# Altium footprint library Hzhiwei.PcbLib: 63 footprints (part 2 of 4)
Each footprint in its own frame and in the unit in brackets; x right, y up, seen from the top. Pads: shape width x height; smd on the part's side, far side on the other; paste and mask are expansions set on the pad; w line width, h text height; cw(c..) or ccw(c..) is an arc to the next point about the centre after c.
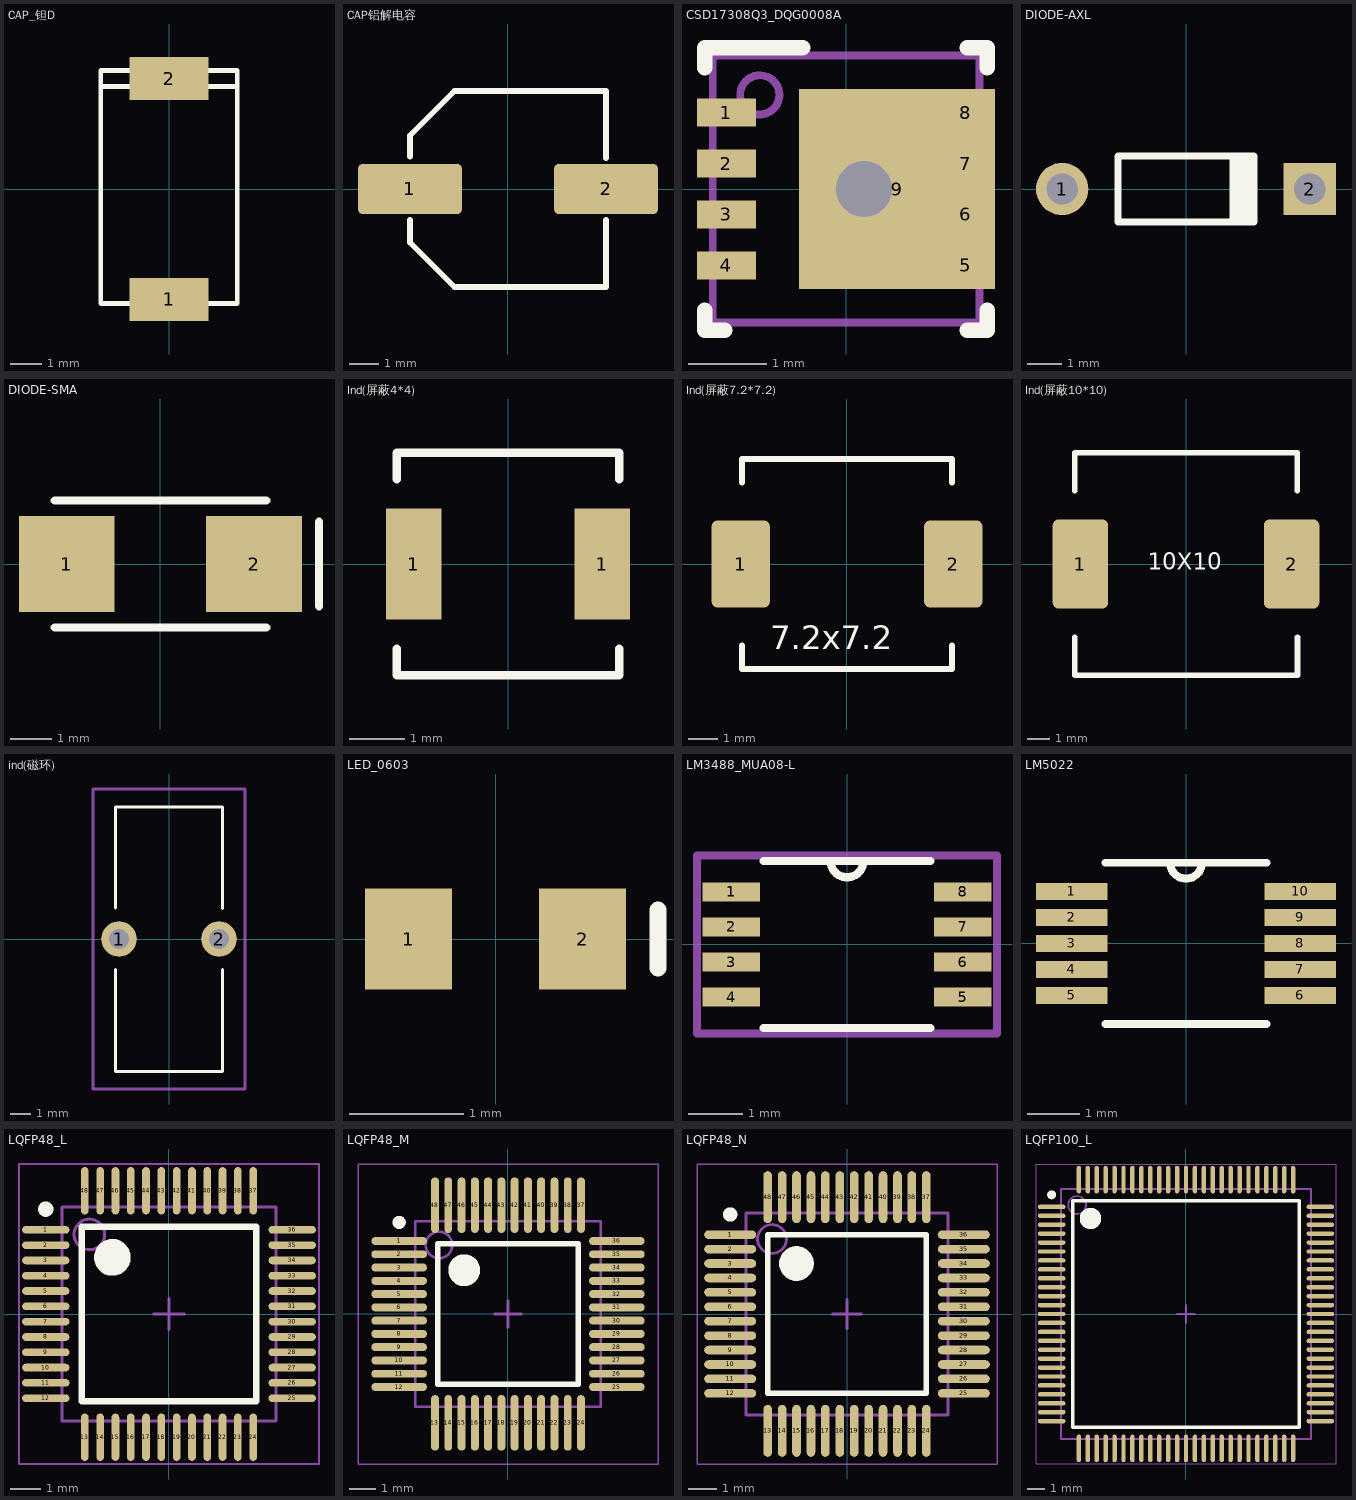
[diagram p1: the footprints below, top view; thin cyan lines are the x and y axes]

## CAP_钽D [mm]
pads (2):
  rect 2.5x1.36 smd: 1(0,-3.492) 2(0,3.492)
Top Overlay:
  lines w0.152: -2.159,3.238 2.159,3.238 ; -2.159,-3.619 -2.159,3.746 2.159,3.746 2.159,-3.619 -2.159,-3.619
3D body: height 4.1, standoff -0.01, extent -2.159,-3.746 2.159,2.73
3D body: height 4.1, standoff -0.01, extent -2.159,2.73 2.159,3.746
3D body: height 2, standoff 0, extent -1.27,2.73 1.27,4.255
3D body: height 2, standoff 0, extent -1.27,-4.255 1.397,-2.73

## CAP铝解电容 [mm]
pads (2):
  rrect20% 3.5x1.7 smd: 1(-3.3,0) 2(3.3,0)
Top Overlay:
  lines w0.2: -3.3,-1.05 -3.3,-1.8 -1.8,-3.3 3.3,-3.3 3.3,-1.05 ; -3.3,1.1 -3.3,1.8 -1.8,3.3 3.3,3.3 3.3,1.05
3D body: height 7, standoff 0, extent -3.222,-3.242 3.252,3.246
3D body: height 1, standoff 0, extent -3.3,-3.3 3.304,3.304

## CSD17308Q3_DQG0008A [mm]
pads (9):
  rect 0.75x0.356 smd paste-0.05 mask-0.051: 1(-1.525,0.975) 2(-1.525,0.325) 3(-1.525,-0.325) 4(-1.525,-0.975)
  rect 0.75x0.44 smd paste-0.05 mask-0.051: 5(1.525,-0.975) 6(1.525,-0.325) 7(1.525,0.325) 8(1.525,0.975)
  rect 2.5x2.55 smd paste-1.262 mask-1.257: 9(0.65,0)
via 0.229,0 diameter 1.27 hole 0.711
Top Overlay:
  lines w0.2: -1.8,-1.55 -1.8,-1.8 -1.55,-1.8 ; -1.8,1.55 -1.8,1.8 -0.55,1.8 ; 1.55,-1.8 1.8,-1.8 1.8,-1.55 ; 1.55,1.8 1.8,1.8 1.8,1.55
Top Paste:
  region: 0.125,1.184 0.126,1.174 0.126,0.151 0.125,0.141 0.122,0.131 0.117,0.123 0.111,0.115 0.103,0.109 0.095,0.104 0.085,0.101 0.075,0.1 -0.499,0.1 -0.509,0.101 -0.519,0.104 -0.527,0.109 -0.535,0.115 -0.541,0.123 -0.546,0.131 -0.549,0.141 -0.55,0.151 -0.55,1.174 -0.549,1.184 -0.546,1.194 -0.541,1.202 -0.535,1.21 -0.527,1.216 -0.519,1.221 -0.509,1.224 -0.499,1.225 0.075,1.225 0.085,1.224 0.095,1.221 0.103,1.216 0.111,1.21 0.117,1.202 0.122,1.194
  region: 0.125,-0.141 0.126,-0.151 0.126,-1.174 0.125,-1.184 0.122,-1.194 0.117,-1.202 0.111,-1.21 0.103,-1.216 0.095,-1.221 0.085,-1.224 0.075,-1.225 -0.499,-1.225 -0.509,-1.224 -0.519,-1.221 -0.527,-1.216 -0.535,-1.21 -0.541,-1.202 -0.546,-1.194 -0.549,-1.184 -0.55,-1.174 -0.55,-0.151 -0.549,-0.141 -0.546,-0.131 -0.541,-0.123 -0.535,-0.115 -0.527,-0.109 -0.519,-0.104 -0.509,-0.101 -0.499,-0.1 0.075,-0.1 0.085,-0.101 0.095,-0.104 0.103,-0.109 0.111,-0.115 0.117,-0.123 0.122,-0.131
  region: 0.327,-1.184 0.326,-1.174 0.326,-0.151 0.327,-0.141 0.33,-0.131 0.335,-0.123 0.341,-0.115 0.349,-0.109 0.357,-0.104 0.367,-0.101 0.377,-0.1 0.951,-0.1 0.961,-0.101 0.971,-0.104 0.979,-0.109 0.987,-0.115 0.993,-0.123 0.998,-0.131 1.001,-0.141 1.002,-0.151 1.002,-1.174 1.001,-1.184 0.998,-1.194 0.993,-1.202 0.987,-1.21 0.979,-1.216 0.971,-1.221 0.961,-1.224 0.951,-1.225 0.377,-1.225 0.367,-1.224 0.357,-1.221 0.349,-1.216 0.341,-1.21 0.335,-1.202 0.33,-1.194
  region: 0.327,0.141 0.326,0.151 0.326,1.174 0.327,1.184 0.33,1.194 0.335,1.202 0.341,1.21 0.349,1.216 0.357,1.221 0.367,1.224 0.377,1.225 0.951,1.225 0.961,1.224 0.971,1.221 0.979,1.216 0.987,1.21 0.993,1.202 0.998,1.194 1.001,1.184 1.002,1.174 1.002,0.151 1.001,0.141 0.998,0.131 0.993,0.123 0.987,0.115 0.979,0.109 0.971,0.104 0.961,0.101 0.951,0.1 0.377,0.1 0.367,0.101 0.357,0.104 0.349,0.109 0.341,0.115 0.335,0.123 0.33,0.131
Top Solder:
  drawing of 5 lines, arcs and shapes, not listed
Mechanical 13:
  circle w0.1: c-1.1,1.2 r0.25
  lines w0.1: -1.7,-1.7 -1.7,1.7 1.7,1.7 1.7,-1.7 -1.7,-1.7
3D body "DQG0008A.stp": height 1.1, standoff 0, extent -1.65,-1.65 1.65,1.65

## DIODE-AXL [mm] "直插二极管"
height 1.9
pads (2):
  round 1.5 hole 0.9: 1(-3.55,0)
  rect 1.5x1.5 hole 0.9: 2(3.55,0)
Top Overlay:
  rectangle: 1.25,-0.95 2.05,0.95
  lines w0.2: 1.95,-0.95 -1.95,-0.95 -1.95,0.95 1.95,0.95

## DIODE-SMA [mm] "贴片二极管"
height 2.54
pads (2):
  rect 2.3x2.3 smd: 1(-2.25,0) 2(2.25,0)
Top Overlay:
  lines w0.2: -2.54,-1.524 2.54,-1.524 ; -2.54,1.524 2.54,1.524 ; 3.81,-1.016 3.81,1.016
3D body: height 3, standoff 0, extent -2.921,-1.397 2.921,1.397

## Ind(屏蔽4*4) [mm]
pads (2):
  rect 1x2 smd: 1(-1.7,0) 1(1.7,0)
Top Overlay:
  lines w0.152: -2,-1.524 -2,-2 2,-2 2,-1.524 ; -2,1.524 -2,2 2,2 2,1.524
3D body: height 2, standoff 0, extent -1.981,-2.007 2.007,1.981

## Ind(屏蔽7.2*7.2) [mm]
pads (2):
  rrect20% 2x3 smd: 1(-3.65,0) 2(3.65,0)
Top Overlay:
  lines w0.2: -3.6,-2.794 -3.6,-3.6 3.6,-3.6 3.6,-2.794 ; -3.6,2.794 -3.6,3.6 1.9,3.6 3.6,3.6 3.6,2.794
  text "7.2x7.2" at -2.642,-2.921 h0.81
3D body: height 4, standoff 0.5, extent -3.575,-3.6 3.588,3.588

## Ind(屏蔽10*10) [mm]
pads (2):
  rrect20% 2.5x4 smd: 1(-4.75,0) 2(4.75,0)
Top Overlay:
  lines w0.254: -5,-3.302 -5,-5 5.016,-5 5.016,-3.302 ; -5,3.302 -5,5 5,5 5,3.302
  text "10X10" at -1.719,-0.269 h0.76
3D body: height 5, standoff 0.5, extent -4.978,-4.978 5.004,4.953

## ind(磁环) [mil]
pads (2):
  round 70 hole 40: 1(-98.43,0) 2(98.43,0)
Top Overlay:
  lines w6: -105,-60 -105,-261 105,-261 105,-60 ; -105,61 -105,260 105,260 105,60
Mechanical 15:
  lines w6: -149.61,-295.28 -149.61,295.28 149.61,295.28 149.61,-295.28 -149.61,-295.28
3D body "外径13厚度5.STEP": height 519.68, standoff 7.87, extent -98.42,-256.9 98.43,254.91

## LED_0603 [mil]
pads (2):
  rect 30x35 smd: 1(-30,0) 2(30,0)
Top Overlay:
  lines w6: 56,-10 56,10
3D body "LED_0603.STEP": height 15.75, standoff 0, extent -30.5,-16 32.5,15.5

## LM3488_MUA08-L [mil]
pads (8):
  rect 42x14 smd mask+4: 1(-84.5,38.39) 2(-84.5,12.8) 3(-84.5,-12.8) 4(-84.5,-38.39) 5(84.5,-38.39) 6(84.5,-12.8) 7(84.5,12.8) 8(84.5,38.39)
Top Overlay:
  lines w6: -61,-61 61,-61 ; -61,61 61,61 ; -12,61 ccw(c0,61) 12,61
Mechanical 13:
  lines w0: -12,61 ccw(c0,61) 12,61
Mechanical 15:
  lines w6: -109.5,-65 -109.5,65 109.5,65 109.5,-65 -109.5,-65
3D body "LM3488.stp": height 38, standoff 0, extent -95.5,-59 97.5,59

## LM5022 [mil] "TI升压IC"
pads (10):
  rect 54x13 smd mask+4: 1(-86.5,39.37) 2(-86.5,19.68) 3(-86.5,0) 4(-86.5,-19.68) 5(-86.5,-39.37) 6(86.5,-39.37) 7(86.5,-19.68) 8(86.5,0) 9(86.5,19.68) 10(86.5,39.37)
Top Overlay:
  lines w6: -61,-61 61,-61 ; -61,61 61,61 ; -12,61 ccw(c0,61) 12,61
Mechanical 13:
  lines w0: -12,61 ccw(c0,61) 12,61
3D body "MUB10A-M.stp": height 43.01, standoff 0, extent -99.5,-61 99.5,61

## LQFP48_L [mm] "Thin QFP, 48-Leads, Body 7x7mm, Pitch 0.5mm, IPC High Density"
height 1.6
pads (48):
  oval 1.55x0.25 smd: 1(-4.025,2.75) 2(-4.025,2.25) 3(-4.025,1.75) 4(-4.025,1.25) 5(-4.025,0.75) 6(-4.025,0.25) 7(-4.025,-0.25) 8(-4.025,-0.75) 9(-4.025,-1.25) 10(-4.025,-1.75) 11(-4.025,-2.25) 12(-4.025,-2.75) 25(4.025,-2.75) 26(4.025,-2.25) 27(4.025,-1.75) 28(4.025,-1.25) 29(4.025,-0.75) 30(4.025,-0.25) 31(4.025,0.25) 32(4.025,0.75) 33(4.025,1.25) 34(4.025,1.75) 35(4.025,2.25) 36(4.025,2.75)
  oval 0.25x1.55 smd: 13(-2.75,-4.025) 14(-2.25,-4.025) 15(-1.75,-4.025) 16(-1.25,-4.025) 17(-0.75,-4.025) 18(-0.25,-4.025) 19(0.25,-4.025) 20(0.75,-4.025) 21(1.25,-4.025) 22(1.75,-4.025) 23(2.25,-4.025) 24(2.75,-4.025) 37(2.75,4.025) 38(2.25,4.025) 39(1.75,4.025) 40(1.25,4.025) 41(0.75,4.025) 42(0.25,4.025) 43(-0.25,4.025) 44(-0.75,4.025) 45(-1.25,4.025) 46(-1.75,4.025) 47(-2.25,4.025) 48(-2.75,4.025)
Top Overlay:
  circle w0.6: c-1.85,1.85 r0.3
  circle w0.25: c-4.025,3.425 r0.125
  lines w0.2: -2.85,-2.85 2.85,-2.85 2.85,2.85 -2.85,2.85 -2.85,-2.85
Mechanical 13:
  circle w0.1: c-2.6,2.6 r0.5
  lines w0.1: -3.5,-3.5 3.5,-3.5 3.5,3.5 -3.5,3.5 -3.5,-3.5
Mechanical 15:
  lines w0.05: -4.9,-4.9 4.9,-4.9 4.9,4.9 -4.9,4.9 -4.9,-4.9
  lines w0.1: -0.5,0 0.5,0 ; 0,-0.5 0,0.5
3D body: height 1.6, standoff 0, extent -3.5,-3.5 3.5,3.5

## LQFP48_M [mm] "Thin QFP, 48-Leads, Body 7x7mm, Pitch 0.5mm, IPC Low Density"
height 1.6
pads (48):
  oval 2.1x0.3 smd: 1(-4.1,2.75) 2(-4.1,2.25) 3(-4.1,1.75) 4(-4.1,1.25) 5(-4.1,0.75) 6(-4.1,0.25) 7(-4.1,-0.25) 8(-4.1,-0.75) 9(-4.1,-1.25) 10(-4.1,-1.75) 11(-4.1,-2.25) 12(-4.1,-2.75) 25(4.1,-2.75) 26(4.1,-2.25) 27(4.1,-1.75) 28(4.1,-1.25) 29(4.1,-0.75) 30(4.1,-0.25) 31(4.1,0.25) 32(4.1,0.75) 33(4.1,1.25) 34(4.1,1.75) 35(4.1,2.25) 36(4.1,2.75)
  oval 0.3x2.1 smd: 13(-2.75,-4.1) 14(-2.25,-4.1) 15(-1.75,-4.1) 16(-1.25,-4.1) 17(-0.75,-4.1) 18(-0.25,-4.1) 19(0.25,-4.1) 20(0.75,-4.1) 21(1.25,-4.1) 22(1.75,-4.1) 23(2.25,-4.1) 24(2.75,-4.1) 37(2.75,4.1) 38(2.25,4.1) 39(1.75,4.1) 40(1.25,4.1) 41(0.75,4.1) 42(0.25,4.1) 43(-0.25,4.1) 44(-0.75,4.1) 45(-1.25,4.1) 46(-1.75,4.1) 47(-2.25,4.1) 48(-2.75,4.1)
Top Overlay:
  circle w0.25: c-4.1,3.45 r0.125
  circle w0.6: c-1.65,1.65 r0.3
  lines w0.2: -2.65,-2.65 -2.65,2.65 2.65,2.65 2.65,-2.65 -2.65,-2.65
Mechanical 13:
  circle w0.1: c-2.6,2.6 r0.5
  lines w0.1: -3.5,-3.5 -3.5,3.5 3.5,3.5 3.5,-3.5 -3.5,-3.5
Mechanical 15:
  lines w0.05: -5.65,-5.65 -5.65,5.65 5.65,5.65 5.65,-5.65 -5.65,-5.65
  lines w0.1: -0.5,0 0.5,0 ; 0,-0.5 0,0.5
3D body: height 1.6, standoff 0, extent -3.5,-3.5 3.5,3.5

## LQFP48_N [mm] "Thin QFP, 48-Leads, Body 7x7mm, Pitch 0.5mm, IPC Medium Density"
height 1.6
pads (48):
  oval 1.8x0.3 smd: 1(-4.05,2.75) 2(-4.05,2.25) 3(-4.05,1.75) 4(-4.05,1.25) 5(-4.05,0.75) 6(-4.05,0.25) 7(-4.05,-0.25) 8(-4.05,-0.75) 9(-4.05,-1.25) 10(-4.05,-1.75) 11(-4.05,-2.25) 12(-4.05,-2.75) 25(4.05,-2.75) 26(4.05,-2.25) 27(4.05,-1.75) 28(4.05,-1.25) 29(4.05,-0.75) 30(4.05,-0.25) 31(4.05,0.25) 32(4.05,0.75) 33(4.05,1.25) 34(4.05,1.75) 35(4.05,2.25) 36(4.05,2.75)
  oval 0.3x1.8 smd: 13(-2.75,-4.05) 14(-2.25,-4.05) 15(-1.75,-4.05) 16(-1.25,-4.05) 17(-0.75,-4.05) 18(-0.25,-4.05) 19(0.25,-4.05) 20(0.75,-4.05) 21(1.25,-4.05) 22(1.75,-4.05) 23(2.25,-4.05) 24(2.75,-4.05) 37(2.75,4.05) 38(2.25,4.05) 39(1.75,4.05) 40(1.25,4.05) 41(0.75,4.05) 42(0.25,4.05) 43(-0.25,4.05) 44(-0.75,4.05) 45(-1.25,4.05) 46(-1.75,4.05) 47(-2.25,4.05) 48(-2.75,4.05)
Top Overlay:
  circle w0.6: c-1.75,1.75 r0.3
  circle w0.25: c-4.05,3.45 r0.125
  lines w0.2: -2.75,-2.75 2.75,-2.75 2.75,2.75 -2.75,2.75 -2.75,-2.75
Mechanical 13:
  circle w0.1: c-2.6,2.6 r0.5
  lines w0.1: -3.5,-3.5 3.5,-3.5 3.5,3.5 -3.5,3.5 -3.5,-3.5
Mechanical 15:
  lines w0.05: -5.2,-5.2 5.2,-5.2 5.2,5.2 -5.2,5.2 -5.2,-5.2
  lines w0.1: -0.5,0 0.5,0 ; 0,-0.5 0,0.5
3D body: height 1.6, standoff 0, extent -3.5,-3.5 3.5,3.5

## LQFP100_L [mm] "Thin QFP, 100-Leads, Body 14x14mm, Pitch 0.5mm, IPC High Density"
height 1.6
pads (100):
  oval 1.55x0.25 smd: 1(-7.525,6) 2(-7.525,5.5) 3(-7.525,5) 4(-7.525,4.5) 5(-7.525,4) 6(-7.525,3.5) 7(-7.525,3) 8(-7.525,2.5) 9(-7.525,2) 10(-7.525,1.5) 11(-7.525,1) 12(-7.525,0.5) 13(-7.525,0) 14(-7.525,-0.5) 15(-7.525,-1) 16(-7.525,-1.5) 17(-7.525,-2) 18(-7.525,-2.5) 19(-7.525,-3) 20(-7.525,-3.5) 21(-7.525,-4) 22(-7.525,-4.5) 23(-7.525,-5) 24(-7.525,-5.5) 25(-7.525,-6) 51(7.525,-6) 52(7.525,-5.5) 53(7.525,-5) 54(7.525,-4.5) 55(7.525,-4) 56(7.525,-3.5) 57(7.525,-3) 58(7.525,-2.5) 59(7.525,-2) 60(7.525,-1.5) 61(7.525,-1) 62(7.525,-0.5) 63(7.525,0) 64(7.525,0.5) 65(7.525,1) 66(7.525,1.5) 67(7.525,2) 68(7.525,2.5) 69(7.525,3) 70(7.525,3.5) 71(7.525,4) 72(7.525,4.5) 73(7.525,5) 74(7.525,5.5) 75(7.525,6)
  oval 0.25x1.55 smd: 26(-6,-7.525) 27(-5.5,-7.525) 28(-5,-7.525) 29(-4.5,-7.525) 30(-4,-7.525) 31(-3.5,-7.525) 32(-3,-7.525) 33(-2.5,-7.525) 34(-2,-7.525) 35(-1.5,-7.525) 36(-1,-7.525) 37(-0.5,-7.525) 38(0,-7.525) 39(0.5,-7.525) 40(1,-7.525) 41(1.5,-7.525) 42(2,-7.525) 43(2.5,-7.525) 44(3,-7.525) 45(3.5,-7.525) 46(4,-7.525) 47(4.5,-7.525) 48(5,-7.525) 49(5.5,-7.525) 50(6,-7.525) 76(6,7.525) 77(5.5,7.525) 78(5,7.525) 79(4.5,7.525) 80(4,7.525) 81(3.5,7.525) 82(3,7.525) 83(2.5,7.525) 84(2,7.525) 85(1.5,7.525) 86(1,7.525) 87(0.5,7.525) 88(0,7.525) 89(-0.5,7.525) 90(-1,7.525) 91(-1.5,7.525) 92(-2,7.525) 93(-2.5,7.525) 94(-3,7.525) 95(-3.5,7.525) 96(-4,7.525) 97(-4.5,7.525) 98(-5,7.525) 99(-5.5,7.525) 100(-6,7.525)
Top Overlay:
  circle w0.25: c-7.525,6.675 r0.125
  circle w0.6: c-5.35,5.35 r0.3
  lines w0.2: -6.35,-6.35 -6.35,6.35 6.35,6.35 6.35,-6.35 -6.35,-6.35
Mechanical 13:
  circle w0.1: c-6.1,6.1 r0.5
  lines w0.1: -7,-7 -7,7 7,7 7,-7 -7,-7
Mechanical 15:
  lines w0.05: -8.4,-8.4 -8.4,8.4 8.4,8.4 8.4,-8.4 -8.4,-8.4
  lines w0.1: -0.5,0 0.5,0 ; 0,-0.5 0,0.5
3D body: height 1.6, standoff 0, extent -7,-7 7,7